# Altium schematic symbol library Port programmationArduino Schematic.SchLib: 1 symbol
Pins are listed as number, name and electrical type; pins without a type are passive.

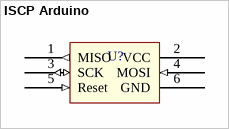
[diagram p0: symbol ISCP Arduino]

## ISCP Arduino
designator U?  (value not drawn)
Programmation Port For Arduino
footprint Prog Arduino
footprint Prog Arduino
footprint Prog Arduino
pins: 1 MISO (out), 2 VCC (power), 3 SCK (io), 4 MOSI (in), 5 Reset (in), 6 GND (power)